# Altium schematic symbol library SCH - CONNECTORS STACK - Samtec - 2x52-pin.SchLib: 3 symbols
Pins are listed as number, name and electrical type; pins without a type are passive.

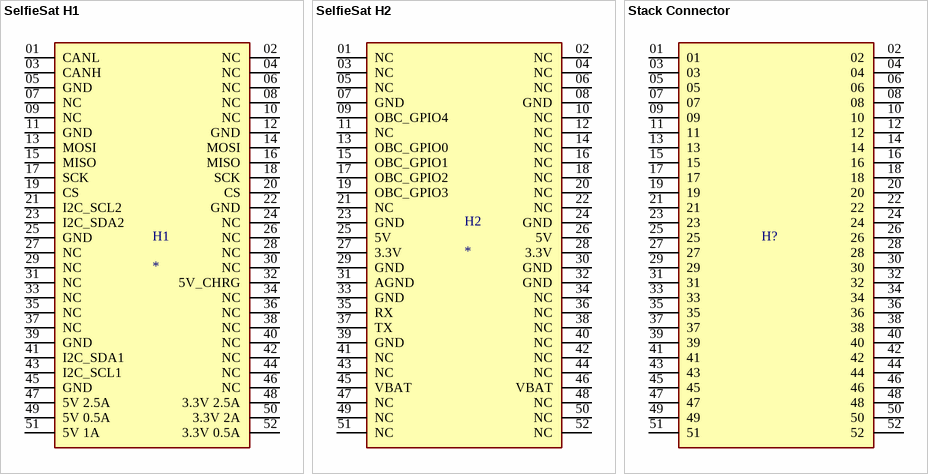
[diagram p0: symbols SelfieSat H1 to Stack Connector]

## SelfieSat H1
designator H1
pins: 01 CANL, 02 NC, 03 CANH, 04 NC, 05 GND, 06 NC, 07 NC, 08 NC, 09 NC, 10 NC, 11 GND, 12 GND, 13 MOSI, 14 MOSI, 15 MISO, 16 MISO, 17 SCK, 18 SCK, 19 CS, 20 CS, 21 I2C_SCL2, 22 GND, 23 I2C_SDA2, 24 NC, 25 GND, 26 NC, 27 NC, 28 NC, 29 NC, 30 NC, 31 NC, 32 5V_CHRG, 33 NC, 34 NC, 35 NC, 36 NC, 37 NC, 38 NC, 39 GND, 40 NC, 41 I2C_SDA1, 42 NC, 43 I2C_SCL1, 44 NC, 45 GND, 46 NC, 47 5V 2.5A, 48 3.3V 2.5A, 49 5V 0.5A, 50 3.3V 2A, 51 5V 1A, 52 3.3V 0.5A

## SelfieSat H2
designator H2
pins: 01 NC, 02 NC, 03 NC, 04 NC, 05 NC, 06 NC, 07 GND, 08 GND, 09 OBC_GPIO4, 10 NC, 11 NC, 12 NC, 13 OBC_GPIO0, 14 NC, 15 OBC_GPIO1, 16 NC, 17 OBC_GPIO2, 18 NC, 19 OBC_GPIO3, 20 NC, 21 NC, 22 NC, 23 GND, 24 GND, 25 5V, 26 5V, 27 3.3V, 28 3.3V, 29 GND, 30 GND, 31 AGND, 32 GND, 33 GND, 34 NC, 35 RX, 36 NC, 37 TX, 38 NC, 39 GND, 40 NC, 41 NC, 42 NC, 43 NC, 44 NC, 45 VBAT, 46 VBAT, 47 NC, 48 NC, 49 NC, 50 NC, 51 NC, 52 NC

## Stack Connector
designator H?
pins: 01, 02, 03, 04, 05, 06, 07, 08, 09, 10, 11, 12, 13, 14, 15, 16, 17, 18, 19, 20, 21, 22, 23, 24, 25, 26, 27, 28, 29, 30, 31, 32, 33, 34, 35, 36, 37, 38, 39, 40, 41, 42, 43, 44, 45, 46, 47, 48, 49, 50, 51, 52